# EAGLE library part FIO_SOCKET (library open_hw_sockets)
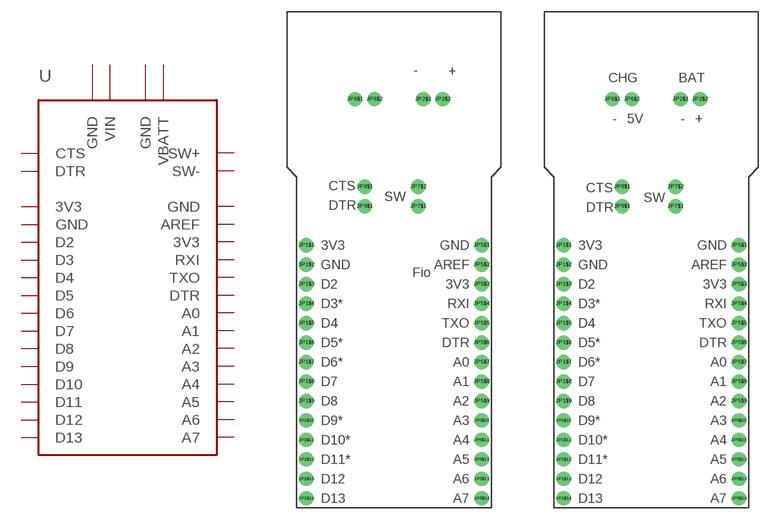
[diagram p1: symbol with the pads of FIO_V23_SOCKET; footprints FIO_V23_SOCKET, FIO_V23_SOCKET_TOP]

Designator prefix -

## FIO_SOCKET  [FIO_V23_SOCKET]
JP1$1  3V3  pwr
JP1$2  GND  pwr
JP1$3  D2
JP1$4  D3
JP1$5  D4
JP1$6  D5
JP1$7  D6
JP1$8  D7
JP1$9  D8
JP1$10  D9
JP1$11  D10
JP1$12  D11
JP1$13  D12
JP1$14  D13
JP2$1  GND
JP2$2  VBATT
JP5$1  GND  pwr
JP5$2  AREF  out
JP5$3  3V3  pwr
JP5$4  RXI  in
JP5$5  TXO  out
JP5$6  DTR  in
JP5$7  A0
JP5$8  A1
JP5$9  A2
JP5$10  A3
JP5$11  A4
JP5$12  A5
JP5$13  A6
JP5$14  A7
JP6$1  GND
JP6$2  VIN
JP7$1  SW-
JP7$2  SW+
JP8$1  CTS
JP9$1  DTR

## FIO_SOCKETTOP  [FIO_V23_SOCKET_TOP]
Pads as for FIO_V23_SOCKET

## FIO_SOCKETBOT  [FIO_V23_SOCKET_BOT]
Pads as for FIO_V23_SOCKET

## Footprint FIO_V23_SOCKET (pad centres in mm)
drill 1.016 pad 1.88: JP1$1 1.27,34.29; JP1$2 1.27,31.75; JP1$3 1.27,29.21; JP1$4 1.27,26.67; JP1$5 1.27,24.13; JP1$6 1.27,21.59; JP1$7 1.27,19.05; JP1$8 1.27,16.51; JP1$9 1.27,13.97; JP1$10 1.27,11.43; JP1$11 1.27,8.89; JP1$12 1.27,6.35; JP1$13 1.27,3.81; JP1$14 1.27,1.27; JP2$1 16.51,53.34; JP2$2 19.05,53.34; JP5$1 24.13,34.29; JP5$2 24.13,31.75; JP5$3 24.13,29.21; JP5$4 24.13,26.67; JP5$5 24.13,24.13; JP5$6 24.13,21.59; JP5$7 24.13,19.05; JP5$8 24.13,16.51; JP5$9 24.13,13.97; JP5$10 24.13,11.43; JP5$11 24.13,8.89; JP5$12 24.13,6.35; JP5$13 24.13,3.81; JP5$14 24.13,1.27; JP6$1 7.62,53.34; JP6$2 10.16,53.34; JP7$1 15.875,39.37; JP7$2 15.875,41.91; JP8$1 8.89,41.91; JP9$1 8.89,39.37

## Footprint FIO_V23_SOCKET_TOP (pad centres in mm)
drill 1.016 pad 1.88: JP1$1 1.27,34.29; JP1$2 1.27,31.75; JP1$3 1.27,29.21; JP1$4 1.27,26.67; JP1$5 1.27,24.13; JP1$6 1.27,21.59; JP1$7 1.27,19.05; JP1$8 1.27,16.51; JP1$9 1.27,13.97; JP1$10 1.27,11.43; JP1$11 1.27,8.89; JP1$12 1.27,6.35; JP1$13 1.27,3.81; JP1$14 1.27,1.27; JP2$1 16.51,53.34; JP2$2 19.05,53.34; JP5$1 24.13,34.29; JP5$2 24.13,31.75; JP5$3 24.13,29.21; JP5$4 24.13,26.67; JP5$5 24.13,24.13; JP5$6 24.13,21.59; JP5$7 24.13,19.05; JP5$8 24.13,16.51; JP5$9 24.13,13.97; JP5$10 24.13,11.43; JP5$11 24.13,8.89; JP5$12 24.13,6.35; JP5$13 24.13,3.81; JP5$14 24.13,1.27; JP6$1 7.62,53.34; JP6$2 10.16,53.34; JP7$1 15.875,39.37; JP7$2 15.875,41.91; JP8$1 8.89,41.91; JP9$1 8.89,39.37

## Footprint FIO_V23_SOCKET_BOT (pad centres in mm)
drill 1.016 pad 1.88: JP1$1 1.27,34.29; JP1$2 1.27,31.75; JP1$3 1.27,29.21; JP1$4 1.27,26.67; JP1$5 1.27,24.13; JP1$6 1.27,21.59; JP1$7 1.27,19.05; JP1$8 1.27,16.51; JP1$9 1.27,13.97; JP1$10 1.27,11.43; JP1$11 1.27,8.89; JP1$12 1.27,6.35; JP1$13 1.27,3.81; JP1$14 1.27,1.27; JP2$1 16.51,53.34; JP2$2 19.05,53.34; JP5$1 24.13,34.29; JP5$2 24.13,31.75; JP5$3 24.13,29.21; JP5$4 24.13,26.67; JP5$5 24.13,24.13; JP5$6 24.13,21.59; JP5$7 24.13,19.05; JP5$8 24.13,16.51; JP5$9 24.13,13.97; JP5$10 24.13,11.43; JP5$11 24.13,8.89; JP5$12 24.13,6.35; JP5$13 24.13,3.81; JP5$14 24.13,1.27; JP6$1 7.62,53.34; JP6$2 10.16,53.34; JP7$1 15.875,39.37; JP7$2 15.875,41.91; JP8$1 8.89,41.91; JP9$1 8.89,39.37